# Altium schematic symbol library IND 100UH 50MA 4 OHM SMD.Schlib: 1 symbol
Pins are listed as number, name and electrical type; pins without a type are passive.

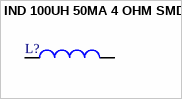
[diagram p0: symbol IND 100UH 50MA 4 OHM SMD]

## IND 100UH 50MA 4 OHM SMD
designator L?
100µH Unshielded Wirewound Inductor 50mA 4Ohm 0805 (2012 Metric); Value: 100uH; MF: Taiyo Yuden; MP: LBR2012T101K; Revision: July-2002: Re-released for DXP Platform.; Digikey: 587-2048-1-ND; Digikey Link: https://www.digikey.ca/product-detail/en/taiyo-yuden/LBR2012T101K/587-2048-1-ND/1788995; Supplier 1: Digi-Key; Supplier Part Number 1: 587-4040-1-ND
footprint 0805
pins: 1, 2